# Altium footprint library Tranzistor.PcbLib: 240 footprints (part 9 of 15)
Each footprint in its own frame and in the unit in brackets; x right, y up, seen from the top. Pads: shape width x height; smd on the part's side, far side on the other; paste and mask are expansions set on the pad; w line width, h text height; cw(c..) or ccw(c..) is an arc to the next point about the centre after c.
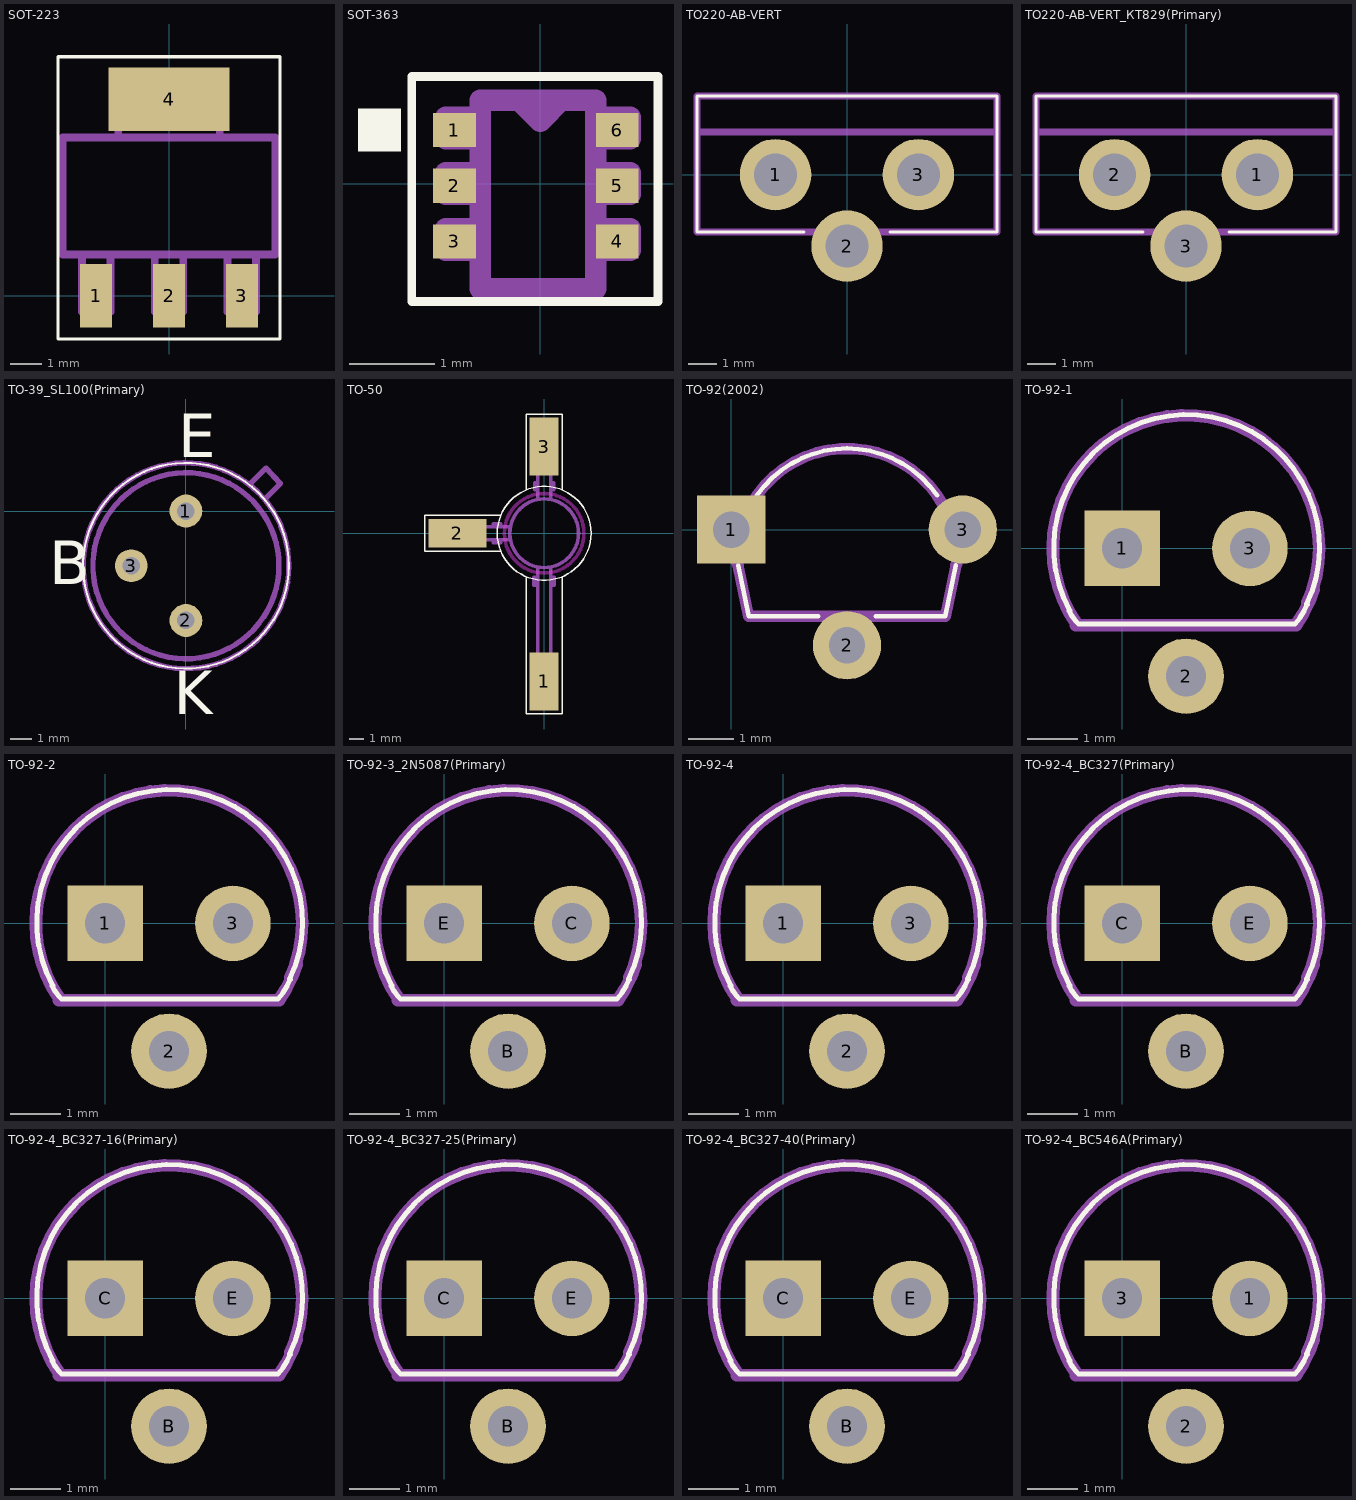
[diagram p8: the footprints below, top view; thin cyan lines are the x and y axes]

## SOT-223 [mm]
pads (4):
  rect 1x2 smd: 1(-2.3,0) 2(0,0) 3(2.3,0)
  rect 3.8x2 smd: 4(0,6.2)
Top Overlay:
  lines w0.1: -3.5,-1.36 3.5,-1.36 3.5,7.54 -3.5,7.54 -3.5,-1.36
Mechanical 1:
  lines w0.25: -2.75,1.3 -2.75,-0.5 -1.85,-0.5 -1.85,1.3 ; -1.6,5.05 -1.6,6.8 1.6,6.8 1.6,5.05 ; -0.45,1.3 -0.45,-0.5 0.45,-0.5 0.45,1.3 ; 1.85,1.3 1.85,-0.5 2.75,-0.5 2.75,1.3 ; -3.35,1.3 3.35,1.3 3.35,5 -3.35,5 -3.35,1.3

## SOT-363 [mm]
pads (6):
  rect 0.5x0.4 smd: 1(-1,0.625) 2(-1,-0.025) 3(-1,-0.675) 4(0.9,-0.675) 5(0.9,-0.025) 6(0.9,0.625)
Top Overlay:
  region: -2.125,0.875 -2.125,0.375 -1.625,0.375 -1.625,0.875
  lines w0.1: -1.5,-1.375 1.375,-1.375 1.375,1.25 -1.5,1.25 -1.5,-1.375
Mechanical 1:
  lines w0.25: -0.7,-0.775 -1.1,-0.775 -1.1,-0.525 -0.7,-0.525 ; -0.7,-0.125 -1.1,-0.125 -1.1,0.125 -0.7,0.125 ; -0.7,0.525 -1.1,0.525 -1.1,0.775 -0.7,0.775 ; -0.25,0.975 0,0.725 0.25,0.975 ; 0.65,-0.775 1.05,-0.775 1.05,-0.525 0.65,-0.525 ; 0.65,-0.125 1.05,-0.125 1.05,0.125 0.65,0.125 ; 0.65,0.525 1.05,0.525 1.05,0.775 0.65,0.775 ; -0.7,-1.225 0.65,-1.225 0.65,0.975 -0.7,0.975 -0.7,-1.225

## TO220-AB-VERT [mm]
pads (3):
  round 2.5 hole 1.5: 1(-2.5,0) 2(0,-2.5) 3(2.5,0)
Top Overlay:
  lines w0.1: -1.5,-2 -5.25,-2 -5.25,2.75 5.25,2.75 5.25,-2 1.5,-2
Mechanical 1:
  lines w0.25: -5.25,1.5 5.25,1.5 ; -5.25,-2 5.25,-2 5.25,2.75 -5.25,2.75 -5.25,-2

## TO220-AB-VERT_КТ829(Primary) [mm]
pads (3):
  round 2.5 hole 1.5: 1(2.5,0) 2(-2.5,0) 3(0,-2.5)
Top Overlay:
  lines w0.1: -1.5,-2 -5.25,-2 -5.25,2.75 5.25,2.75 5.25,-2 1.5,-2
Mechanical 1:
  lines w0.25: -5.25,1.5 5.25,1.5 ; -5.25,-2 5.25,-2 5.25,2.75 -5.25,2.75 -5.25,-2

## TO-39_SL100(Primary) [mm]
pads (3):
  round 1.5 hole 0.8: 1(0,0) 2(0,-5) 3(-2.5,-2.5)
Top Overlay:
  circle w0.1: c0,-2.5 r4.7
  text "E" at -0.357,2.448 h1.98
  text "K" at -0.558,-9.273 h1.98
  text "B" at -6.248,-3.353 h1.98
Mechanical 1:
  circle w0.25: c0,-2.5 r4.25
  circle w0.25: c0,-2.5 r4.7
  lines w0.25: 2.91,1.21 3.66,1.96 4.31,1.26 3.61,0.56
  text "E" at -0.357,2.448 h1.98
  text "K" at -0.558,-9.273 h1.98
  text "B" at -6.248,-3.353 h1.98

## TO-50 [mm]
pads (3):
  rect 2x4 smd: 1(0,-10.25) 3(0,6)
  rect 4x2 smd: 2(-6,0)
Top Overlay:
  lines w0.1: -3,-1.25 -8.25,-1.25 -8.25,1.25 -3,1.25 ; -1.25,-3 -1.25,-12.5 1.25,-12.5 1.25,-3 ; -1.25,3 -1.25,8.25 1.25,8.25 1.25,3 ; -3.25,0 ccw(c0,0) 3.25,0 ccw(c0,0) -3.25,0
Keep-Out Layer:
  lines w0.25: -2.75,0 ccw(c0,0) 2.75,0 ccw(c0,0) -2.75,0
Mechanical 1:
  lines w0.25: -3.5,-0.45 -3.5,-0.65 -3,-0.65 -3,-0.45 ; -3.5,0.45 -3.5,0.65 -3,0.65 -3,0.45 ; -2.35,-0.45 -7.25,-0.45 -6.4,0.45 -2.35,0.45 ; -0.45,-3.6 -0.7,-3.6 -0.7,-3.05 -0.45,-3.05 ; -0.45,-2.35 -0.45,-11.35 0.45,-10.3 0.45,-2.35 ; -0.45,2.35 -0.45,6.4 0.45,7.25 0.45,2.35 ; -0.45,3 -0.65,3 -0.65,3.5 -0.45,3.5 ; 0.45,-3.6 0.7,-3.6 0.7,-3.05 0.45,-3.05 ; 0.45,3 0.65,3 0.65,3.5 0.45,3.5 ; -2.375,0 cw(c0,0) 2.375,0 cw(c0,0) -2.375,0

## TO-92(2002) [mm]
pads (3):
  rect 1.5x1.5 hole 0.8: 1(0,0)
  round 1.5 hole 0.8: 2(2.54,-2.54) 3(5.08,0)
Top Overlay:
  lines w0.1: 0.152,-0.787 0.381,-1.905 1.905,-1.905 ; 0.563,0.749 cw(c2.54,-0.635) 4.517,0.749 ; 3.175,-1.905 4.699,-1.905 4.928,-0.787
Mechanical 1:
  lines w0.25: 0.13,-0.757 cw(c2.54,-0.635) 4.95,-0.757 ; 0.152,-0.787 0.381,-1.905 ; 0.39,-1.9 4.699,-1.905 4.928,-0.787

## TO-92-1 [mm]
pads (3):
  rect 1.5x1.5 hole 0.8: 1(0,0)
  round 1.5 hole 0.8: 2(1.27,-2.54) 3(2.54,0)
Top Overlay:
  lines w0.1: -1.051,-1.245 ccw(c-0.235,-0.843) -0.86,-1.504 ; -1.039,-1.237 cw(c1.282,0.017) 3.66,-1.123 ; -0.856,-1.503 0.084,-1.503 ; 0.086,-1.504 3.419,-1.503 ; 3.434,-1.505 ccw(c2.324,-0.536) 3.679,-1.114
Mechanical 1:
  lines w0.025: 1.245,2.667 1.27,2.667
  lines w0.25: -1.243,0.816 ccw(c1.168,0) -1.243,-0.816 ccw(c1.27,0) -0.895,-1.516 ; -1.055,-1.257 cw(c1.27,0) 3.675,-1.096 ; -0.914,-1.524 3.454,-1.524 ccw(c1.27,0) 3.805,-0.819 ; 3.785,-0.812 ccw(c1.27,0) 3.785,0.812
  text "C" at 2.29,0.79 h0.31
  text "E" at -0.71,0.79 h0.31
  text "BASE" at 0.75,-1.25 h0.31

## TO-92-2 [mm]
pads (3):
  rect 1.5x1.5 hole 0.8: 1(0,0)
  round 1.5 hole 0.8: 2(1.27,-2.54) 3(2.54,0)
Top Overlay:
  lines w0.1: -1.051,-1.245 ccw(c-0.235,-0.843) -0.86,-1.504 ; -1.039,-1.237 cw(c1.282,0.017) 3.66,-1.123 ; -0.856,-1.503 0.084,-1.503 ; 0.086,-1.504 3.419,-1.503 ; 3.434,-1.505 ccw(c2.324,-0.536) 3.679,-1.114
Mechanical 1:
  lines w0.025: 1.245,2.667 1.27,2.667
  lines w0.25: -1.243,0.816 ccw(c1.168,0) -1.243,-0.816 ccw(c1.27,0) -0.895,-1.516 ; -1.055,-1.257 cw(c1.27,0) 3.675,-1.096 ; -0.914,-1.524 3.454,-1.524 ccw(c1.27,0) 3.805,-0.819 ; 3.785,-0.812 ccw(c1.27,0) 3.785,0.812
  text "BASE" at 1.84,0.84 h0.31
  text "C" at 1.09,-1.26 h0.31
  text "E" at -0.71,0.79 h0.31

## TO-92-3_2N5087(Primary) [mm]
pads (3):
  round 1.5 hole 0.8: B(1.27,-2.54) C(2.54,0)
  rect 1.5x1.5 hole 0.8: E(0,0)
Top Overlay:
  lines w0.1: -1.051,-1.245 ccw(c-0.235,-0.843) -0.86,-1.504 ; -1.039,-1.237 cw(c1.282,0.017) 3.66,-1.123 ; -0.856,-1.503 0.084,-1.503 ; 0.086,-1.504 3.419,-1.503 ; 3.434,-1.505 ccw(c2.324,-0.536) 3.679,-1.114
Mechanical 1:
  lines w0.025: 1.245,2.667 1.27,2.667
  lines w0.25: -1.243,0.816 ccw(c1.168,0) -1.243,-0.816 ccw(c1.27,0) -0.895,-1.516 ; -1.055,-1.257 cw(c1.27,0) 3.675,-1.096 ; -0.914,-1.524 3.454,-1.524 ccw(c1.27,0) 3.805,-0.819 ; 3.785,-0.812 ccw(c1.27,0) 3.785,0.812
  text "C" at 2.29,0.79 h0.31
  text "E" at -0.71,0.79 h0.31
  text "BASE" at 0.75,-1.25 h0.31

## TO-92-4 [mm]
pads (3):
  rect 1.5x1.5 hole 0.8: 1(0,0)
  round 1.5 hole 0.8: 2(1.27,-2.54) 3(2.54,0)
Top Overlay:
  lines w0.1: -1.051,-1.245 ccw(c-0.235,-0.843) -0.86,-1.504 ; -1.039,-1.237 cw(c1.282,0.017) 3.66,-1.123 ; -0.856,-1.503 0.084,-1.503 ; 0.086,-1.504 3.419,-1.503 ; 3.434,-1.505 ccw(c2.324,-0.536) 3.679,-1.114
Mechanical 1:
  lines w0.025: 1.245,2.667 1.27,2.667
  lines w0.25: -1.243,0.816 ccw(c1.168,0) -1.243,-0.816 ccw(c1.27,0) -0.895,-1.516 ; -1.055,-1.257 cw(c1.27,0) 3.675,-1.096 ; -0.914,-1.524 3.454,-1.524 ccw(c1.27,0) 3.805,-0.819 ; 3.785,-0.812 ccw(c1.27,0) 3.785,0.812
  text "E" at 2.29,0.79 h0.31
  text "C" at -0.71,0.79 h0.31
  text "BASE" at 0.75,-1.25 h0.31

## TO-92-4_BC327(Primary) [mm]
pads (3):
  round 1.5 hole 0.8: B(1.27,-2.54) E(2.54,0)
  rect 1.5x1.5 hole 0.8: C(0,0)
Top Overlay:
  lines w0.1: -1.051,-1.245 ccw(c-0.235,-0.843) -0.86,-1.504 ; -1.039,-1.237 cw(c1.282,0.017) 3.66,-1.123 ; -0.856,-1.503 0.084,-1.503 ; 0.086,-1.504 3.419,-1.503 ; 3.434,-1.505 ccw(c2.324,-0.536) 3.679,-1.114
Mechanical 1:
  lines w0.025: 1.245,2.667 1.27,2.667
  lines w0.25: -1.243,0.816 ccw(c1.168,0) -1.243,-0.816 ccw(c1.27,0) -0.895,-1.516 ; -1.055,-1.257 cw(c1.27,0) 3.675,-1.096 ; -0.914,-1.524 3.454,-1.524 ccw(c1.27,0) 3.805,-0.819 ; 3.785,-0.812 ccw(c1.27,0) 3.785,0.812
  text "E" at 2.29,0.79 h0.31
  text "C" at -0.71,0.79 h0.31
  text "BASE" at 0.75,-1.25 h0.31

## TO-92-4_BC327-16(Primary) [mm]
pads (3):
  round 1.5 hole 0.8: B(1.27,-2.54) E(2.54,0)
  rect 1.5x1.5 hole 0.8: C(0,0)
Top Overlay:
  lines w0.1: -1.051,-1.245 ccw(c-0.235,-0.843) -0.86,-1.504 ; -1.039,-1.237 cw(c1.282,0.017) 3.66,-1.123 ; -0.856,-1.503 0.084,-1.503 ; 0.086,-1.504 3.419,-1.503 ; 3.434,-1.505 ccw(c2.324,-0.536) 3.679,-1.114
Mechanical 1:
  lines w0.025: 1.245,2.667 1.27,2.667
  lines w0.25: -1.243,0.816 ccw(c1.168,0) -1.243,-0.816 ccw(c1.27,0) -0.895,-1.516 ; -1.055,-1.257 cw(c1.27,0) 3.675,-1.096 ; -0.914,-1.524 3.454,-1.524 ccw(c1.27,0) 3.805,-0.819 ; 3.785,-0.812 ccw(c1.27,0) 3.785,0.812
  text "E" at 2.29,0.79 h0.31
  text "C" at -0.71,0.79 h0.31
  text "BASE" at 0.75,-1.25 h0.31

## TO-92-4_BC327-25(Primary) [mm]
pads (3):
  round 1.5 hole 0.8: B(1.27,-2.54) E(2.54,0)
  rect 1.5x1.5 hole 0.8: C(0,0)
Top Overlay:
  lines w0.1: -1.051,-1.245 ccw(c-0.235,-0.843) -0.86,-1.504 ; -1.039,-1.237 cw(c1.282,0.017) 3.66,-1.123 ; -0.856,-1.503 0.084,-1.503 ; 0.086,-1.504 3.419,-1.503 ; 3.434,-1.505 ccw(c2.324,-0.536) 3.679,-1.114
Mechanical 1:
  lines w0.025: 1.245,2.667 1.27,2.667
  lines w0.25: -1.243,0.816 ccw(c1.168,0) -1.243,-0.816 ccw(c1.27,0) -0.895,-1.516 ; -1.055,-1.257 cw(c1.27,0) 3.675,-1.096 ; -0.914,-1.524 3.454,-1.524 ccw(c1.27,0) 3.805,-0.819 ; 3.785,-0.812 ccw(c1.27,0) 3.785,0.812
  text "E" at 2.29,0.79 h0.31
  text "C" at -0.71,0.79 h0.31
  text "BASE" at 0.75,-1.25 h0.31

## TO-92-4_BC327-40(Primary) [mm]
pads (3):
  round 1.5 hole 0.8: B(1.27,-2.54) E(2.54,0)
  rect 1.5x1.5 hole 0.8: C(0,0)
Top Overlay:
  lines w0.1: -1.051,-1.245 ccw(c-0.235,-0.843) -0.86,-1.504 ; -1.039,-1.237 cw(c1.282,0.017) 3.66,-1.123 ; -0.856,-1.503 0.084,-1.503 ; 0.086,-1.504 3.419,-1.503 ; 3.434,-1.505 ccw(c2.324,-0.536) 3.679,-1.114
Mechanical 1:
  lines w0.025: 1.245,2.667 1.27,2.667
  lines w0.25: -1.243,0.816 ccw(c1.168,0) -1.243,-0.816 ccw(c1.27,0) -0.895,-1.516 ; -1.055,-1.257 cw(c1.27,0) 3.675,-1.096 ; -0.914,-1.524 3.454,-1.524 ccw(c1.27,0) 3.805,-0.819 ; 3.785,-0.812 ccw(c1.27,0) 3.785,0.812
  text "E" at 2.29,0.79 h0.31
  text "C" at -0.71,0.79 h0.31
  text "BASE" at 0.75,-1.25 h0.31

## TO-92-4_BC546A(Primary) [mm]
pads (3):
  round 1.5 hole 0.8: 1(2.54,0) 2(1.27,-2.54)
  rect 1.5x1.5 hole 0.8: 3(0,0)
Top Overlay:
  lines w0.1: -1.051,-1.245 ccw(c-0.235,-0.843) -0.86,-1.504 ; -1.039,-1.237 cw(c1.282,0.017) 3.66,-1.123 ; -0.856,-1.503 0.084,-1.503 ; 0.086,-1.504 3.419,-1.503 ; 3.434,-1.505 ccw(c2.324,-0.536) 3.679,-1.114
Mechanical 1:
  lines w0.025: 1.245,2.667 1.27,2.667
  lines w0.25: -1.243,0.816 ccw(c1.168,0) -1.243,-0.816 ccw(c1.27,0) -0.895,-1.516 ; -1.055,-1.257 cw(c1.27,0) 3.675,-1.096 ; -0.914,-1.524 3.454,-1.524 ccw(c1.27,0) 3.805,-0.819 ; 3.785,-0.812 ccw(c1.27,0) 3.785,0.812
  text "E" at 2.29,0.79 h0.31
  text "C" at -0.71,0.79 h0.31
  text "BASE" at 0.75,-1.25 h0.31